# Altium footprint library Pin Header WR-PHD_1.27mm.PcbLib: 31 footprints (part 2 of 2)
Each footprint in its own frame and in the unit in brackets; x right, y up, seen from the top. Pads: shape width x height; smd on the part's side, far side on the other; paste and mask are expansions set on the pad; w line width, h text height; cw(c..) or ccw(c..) is an arc to the next point about the centre after c.
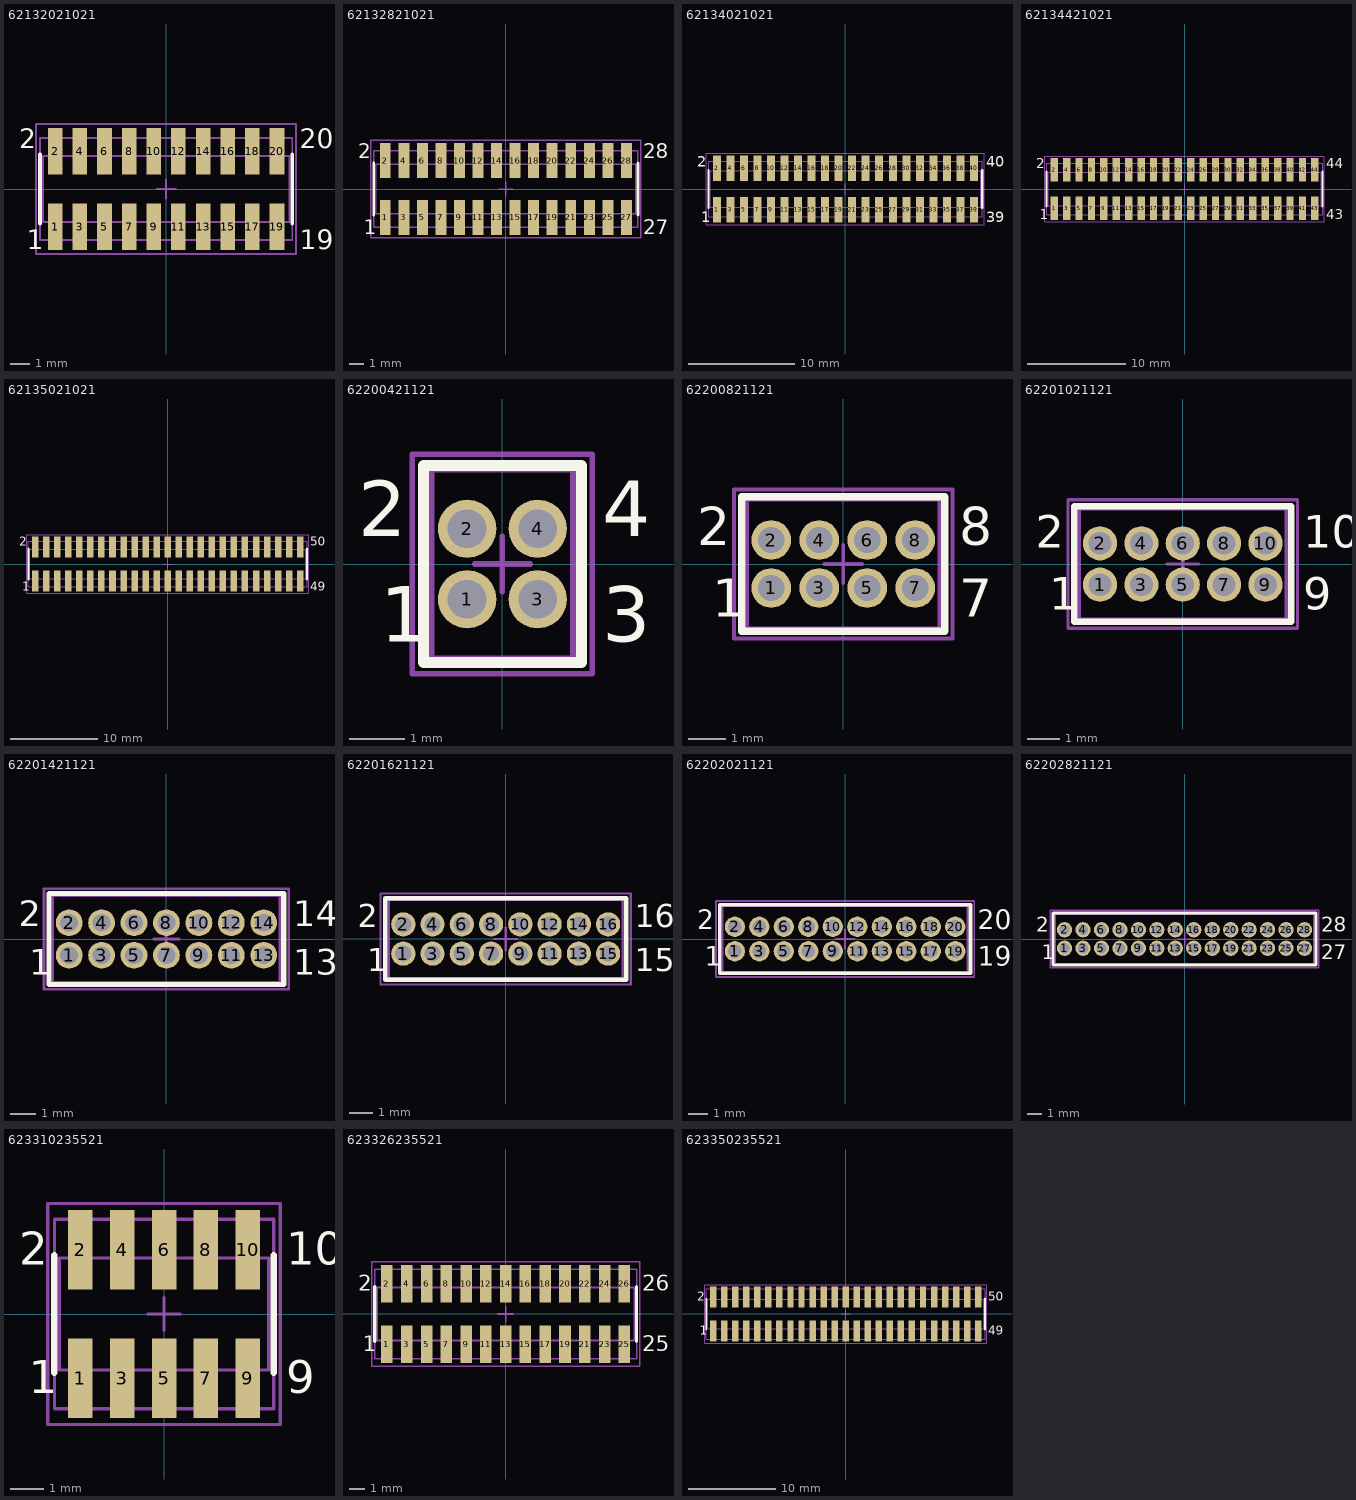
[diagram p1: the footprints below, top view; thin cyan lines are the x and y axes]

## 62132021021 [mm] "Pin Header, pitch 1.27 mm, SMD, Vertical, dual row, 20p"
height 6.1
pads (20):
  rect 0.75x2.4 smd: 1(-5.715,-1.95) 2(-5.715,1.95) 3(-4.445,-1.95) 4(-4.445,1.95) 5(-3.175,-1.95) 6(-3.175,1.95) 7(-1.905,-1.95) 8(-1.905,1.95) 9(-0.635,-1.95) 10(-0.635,1.95) 11(0.635,-1.95) 12(0.635,1.95) 13(1.905,-1.95) 14(1.905,1.95) 15(3.175,-1.95) 16(3.175,1.95) 17(4.445,-1.95) 18(4.445,1.95) 19(5.715,-1.95) 20(5.715,1.95)
Top Overlay:
  lines w0.2: -6.5,-1.775 -6.5,1.775 ; 6.5,-1.775 6.5,1.775
  text "2" at -7.58,2.1 h1
  text "1" at -7.18,-3.1 h1
  text "19" at 6.88,-3.1 h1
  text "20" at 6.88,2.1 h1
Mechanical 11:
  lines w0.1: -6.35,-1.7 6.35,-1.7 6.35,1.7 -6.35,1.7 -6.35,-1.7
Mechanical 13:
  lines w0.1: -6.5,-2.625 -6.5,2.625 6.5,2.625 6.5,-2.625 -6.5,-2.625
Mechanical 15:
  lines w0.1: -0.5,0 0.5,0 ; 0,-0.5 0,0.5 ; -6.7,-3.35 -6.7,3.35 6.7,3.35 6.7,-3.35 -6.7,-3.35
3D body "62132021021.stp": height 5.9, standoff 0, extent -6.35,-2.55 6.35,2.55

## 62132821021 [mm] "Pin Header, pitch 1.27 mm, SMD, Vertical, dual row, 28p"
height 6.1
pads (28):
  rect 0.75x2.4 smd: 1(-8.255,-1.95) 2(-8.255,1.95) 3(-6.985,-1.95) 4(-6.985,1.95) 5(-5.715,-1.95) 6(-5.715,1.95) 7(-4.445,-1.95) 8(-4.445,1.95) 9(-3.175,-1.95) 10(-3.175,1.95) 11(-1.905,-1.95) 12(-1.905,1.95) 13(-0.635,-1.95) 14(-0.635,1.95) 15(0.635,-1.95) 16(0.635,1.95) 17(1.905,-1.95) 18(1.905,1.95) 19(3.175,-1.95) 20(3.175,1.95) 21(4.445,-1.95) 22(4.445,1.95) 23(5.715,-1.95) 24(5.715,1.95) 25(6.985,-1.95) 26(6.985,1.95) 27(8.255,-1.95) 28(8.255,1.95)
Top Overlay:
  lines w0.2: -9.04,-1.775 -9.04,1.775 ; 9.04,-1.775 9.04,1.775
  text "28" at 9.42,2.1 h1
  text "27" at 9.42,-3.1 h1
  text "1" at -9.72,-3.1 h1
  text "2" at -10.12,2.1 h1
Mechanical 11:
  lines w0.1: -8.89,-1.7 -8.89,1.7 8.89,1.7 8.89,-1.7 -8.89,-1.7
Mechanical 13:
  lines w0.1: -9.04,-2.625 9.04,-2.625 9.04,2.625 -9.04,2.625 -9.04,-2.625
Mechanical 15:
  lines w0.1: -0.5,0 0.5,0 ; 0,-0.5 0,0.5 ; -9.24,-3.35 9.24,-3.35 9.24,3.35 -9.24,3.35 -9.24,-3.35
3D body "62132821021.stp": height 5.9, standoff 0, extent -8.89,-2.55 8.89,2.55

## 62134021021 [mm] "Pin Header, pitch 1.27 mm, SMD, Vertical, dual row, 40p"
height 6.1
pads (40):
  rect 0.75x2.4 smd: 1(-12.065,-1.95) 2(-12.065,1.95) 3(-10.795,-1.95) 4(-10.795,1.95) 5(-9.525,-1.95) 6(-9.525,1.95) 7(-8.255,-1.95) 8(-8.255,1.95) 9(-6.985,-1.95) 10(-6.985,1.95) 11(-5.715,-1.95) 12(-5.715,1.95) 13(-4.445,-1.95) 14(-4.445,1.95) 15(-3.175,-1.95) 16(-3.175,1.95) 17(-1.905,-1.95) 18(-1.905,1.95) 19(-0.635,-1.95) 20(-0.635,1.95) 21(0.635,-1.95) 22(0.635,1.95) 23(1.905,-1.95) 24(1.905,1.95) 25(3.175,-1.95) 26(3.175,1.95) 27(4.445,-1.95) 28(4.445,1.95) 29(5.715,-1.95) 30(5.715,1.95) 31(6.985,-1.95) 32(6.985,1.95) 33(8.255,-1.95) 34(8.255,1.95) 35(9.525,-1.95) 36(9.525,1.95) 37(10.795,-1.95) 38(10.795,1.95) 39(12.065,-1.95) 40(12.065,1.95)
Top Overlay:
  lines w0.2: -12.85,-1.775 -12.85,1.775 ; 12.85,-1.775 12.85,1.775
  text "40" at 13.23,2.1 h1
  text "39" at 13.23,-3.1 h1
  text "1" at -13.53,-3.1 h1
  text "2" at -13.93,2.1 h1
Mechanical 11:
  lines w0.1: -12.7,-1.7 -12.7,1.7 12.7,1.7 12.7,-1.7 -12.7,-1.7
Mechanical 13:
  lines w0.1: -12.85,-2.625 12.85,-2.625 12.85,2.625 -12.85,2.625 -12.85,-2.625
Mechanical 15:
  lines w0.1: -0.5,0 0.5,0 ; 0,-0.5 0,0.5 ; -13.05,-3.35 13.05,-3.35 13.05,3.35 -13.05,3.35 -13.05,-3.35
3D body "62134021021.stp": height 5.9, standoff 0, extent -12.7,-2.55 12.7,2.55

## 62134421021 [mm] "Pin Header, pitch 1.27 mm, SMD, Vertical, dual row, 44p"
height 6.1
pads (44):
  rect 0.75x2.4 smd: 1(-13.335,-1.95) 2(-13.335,1.95) 3(-12.065,-1.95) 4(-12.065,1.95) 5(-10.795,-1.95) 6(-10.795,1.95) 7(-9.525,-1.95) 8(-9.525,1.95) 9(-8.255,-1.95) 10(-8.255,1.95) 11(-6.985,-1.95) 12(-6.985,1.95) 13(-5.715,-1.95) 14(-5.715,1.95) 15(-4.445,-1.95) 16(-4.445,1.95) 17(-3.175,-1.95) 18(-3.175,1.95) 19(-1.905,-1.95) 20(-1.905,1.95) 21(-0.635,-1.95) 22(-0.635,1.95) 23(0.635,-1.95) 24(0.635,1.95) 25(1.905,-1.95) 26(1.905,1.95) 27(3.175,-1.95) 28(3.175,1.95) 29(4.445,-1.95) 30(4.445,1.95) 31(5.715,-1.95) 32(5.715,1.95) 33(6.985,-1.95) 34(6.985,1.95) 35(8.255,-1.95) 36(8.255,1.95) 37(9.525,-1.95) 38(9.525,1.95) 39(10.795,-1.95) 40(10.795,1.95) 41(12.065,-1.95) 42(12.065,1.95) 43(13.335,-1.95) 44(13.335,1.95)
Top Overlay:
  lines w0.2: -14.12,-1.775 -14.12,1.775 ; 14.12,-1.775 14.12,1.775
  text "44" at 14.5,2.1 h1
  text "43" at 14.5,-3.1 h1
  text "1" at -14.8,-3.1 h1
  text "2" at -15.2,2.1 h1
Mechanical 11:
  lines w0.1: -13.97,-1.7 -13.97,1.7 13.97,1.7 13.97,-1.7 -13.97,-1.7
Mechanical 13:
  lines w0.1: -14.12,-2.625 14.12,-2.625 14.12,2.625 -14.12,2.625 -14.12,-2.625
Mechanical 15:
  lines w0.1: -0.5,0 0.5,0 ; 0,-0.5 0,0.5 ; -14.32,-3.35 14.32,-3.35 14.32,3.35 -14.32,3.35 -14.32,-3.35
3D body "62134421021.stp": height 5.9, standoff 0, extent -13.97,-2.55 13.97,2.55

## 62135021021 [mm] "Pin Header, pitch 1.27 mm, SMD, Vertical, dual row, 50p"
height 6.1
pads (50):
  rect 0.75x2.4 smd: 1(-15.24,-1.95) 2(-15.24,1.95) 3(-13.97,-1.95) 4(-13.97,1.95) 5(-12.7,-1.95) 6(-12.7,1.95) 7(-11.43,-1.95) 8(-11.43,1.95) 9(-10.16,-1.95) 10(-10.16,1.95) 11(-8.89,-1.95) 12(-8.89,1.95) 13(-7.62,-1.95) 14(-7.62,1.95) 15(-6.35,-1.95) 16(-6.35,1.95) 17(-5.08,-1.95) 18(-5.08,1.95) 19(-3.81,-1.95) 20(-3.81,1.95) 21(-2.54,-1.95) 22(-2.54,1.95) 23(-1.27,-1.95) 24(-1.27,1.95) 25(0,-1.95) 26(0,1.95) 27(1.27,-1.95) 28(1.27,1.95) 29(2.54,-1.95) 30(2.54,1.95) 31(3.81,-1.95) 32(3.81,1.95) 33(5.08,-1.95) 34(5.08,1.95) 35(6.35,-1.95) 36(6.35,1.95) 37(7.62,-1.95) 38(7.62,1.95) 39(8.89,-1.95) 40(8.89,1.95) 41(10.16,-1.95) 42(10.16,1.95) 43(11.43,-1.95) 44(11.43,1.95) 45(12.7,-1.95) 46(12.7,1.95) 47(13.97,-1.95) 48(13.97,1.95) 49(15.24,-1.95) 50(15.24,1.95)
Top Overlay:
  lines w0.2: -16.025,-1.775 -16.025,1.775 ; 16.025,-1.775 16.025,1.775
  text "2" at -17.105,2.1 h1
  text "1" at -16.705,-3.1 h1
  text "49" at 16.405,-3.1 h1
  text "50" at 16.405,2.1 h1
Mechanical 11:
  lines w0.1: -15.875,-1.7 15.875,-1.7 15.875,1.7 -15.875,1.7 -15.875,-1.7
Mechanical 13:
  lines w0.1: -16.025,-2.625 -16.025,2.625 16.025,2.625 16.025,-2.625 -16.025,-2.625
Mechanical 15:
  lines w0.1: -0.5,0 0.5,0 ; 0,-0.5 0,0.5 ; -16.225,-3.35 -16.225,3.35 16.225,3.35 16.225,-3.35 -16.225,-3.35
3D body "62135021021.stp": height 5.9, standoff 0, extent -15.875,-2.55 15.875,2.55

## 62200421121 [mm] "Pin Header, pitch 1.27 mm, THT, Vertical, dual row, 4p"
height 5.65
pads (4):
  round 1.05 hole 0.7: 1(-0.635,-0.635) 2(-0.635,0.635) 3(0.635,-0.635) 4(0.635,0.635)
Top Overlay:
  lines w0.2: -1.42,-1.775 1.42,-1.775 1.42,1.775 -1.42,1.775 -1.42,-1.775
  text "3" at 1.8,-1.4 h1
  text "4" at 1.8,0.5 h1
  text "2" at -2.6,0.5 h1
  text "1" at -2.2,-1.4 h1
Mechanical 11:
  lines w0.1: -1.27,-1.7 1.27,-1.7 1.27,1.7 -1.27,1.7 -1.27,-1.7
Mechanical 13:
  lines w0.1: -1.42,-1.775 1.42,-1.775 1.42,1.775 -1.42,1.775 -1.42,-1.775
Mechanical 15:
  lines w0.1: -0.5,0 0.5,0 ; 0,-0.5 0,0.5 ; -1.62,-1.975 1.62,-1.975 1.62,1.975 -1.62,1.975 -1.62,-1.975
3D body "62200421121.stp": height 5.33, standoff -2.27, extent -1.27,-1.7 1.27,1.7

## 62200821121 [mm] "Pin Header, pitch 1.27 mm, THT, Vertical, dual row, 8p"
height 5.65
pads (8):
  round 1.05 hole 0.7: 1(-1.905,-0.635) 2(-1.905,0.635) 3(-0.635,-0.635) 4(-0.635,0.635) 5(0.635,-0.635) 6(0.635,0.635) 7(1.905,-0.635) 8(1.905,0.635)
Top Overlay:
  lines w0.2: -2.69,-1.775 -2.69,1.775 2.69,1.775 2.69,-1.775 -2.69,-1.775
  text "1" at -3.47,-1.4 h1
  text "2" at -3.87,0.5 h1
  text "7" at 3.07,-1.4 h1
  text "8" at 3.07,0.5 h1
Mechanical 11:
  lines w0.1: -2.54,-1.7 -2.54,1.7 2.54,1.7 2.54,-1.7 -2.54,-1.7
Mechanical 13:
  lines w0.1: -2.69,-1.775 -2.69,1.775 2.69,1.775 2.69,-1.775 -2.69,-1.775
Mechanical 15:
  lines w0.1: -0.5,0 0.5,0 ; 0,-0.5 0,0.5 ; -2.89,-1.975 2.89,-1.975 2.89,1.975 -2.89,1.975 -2.89,-1.975
3D body "62200821121.stp": height 5.33, standoff -2.27, extent -2.54,-1.7 2.54,1.7

## 62201021121 [mm] "Pin Header, pitch 1.27 mm, THT, Vertical, dual row, 10p"
height 5.65
pads (10):
  round 1.05 hole 0.7: 1(-2.54,-0.635) 2(-2.54,0.635) 3(-1.27,-0.635) 4(-1.27,0.635) 5(0,-0.635) 6(0,0.635) 7(1.27,-0.635) 8(1.27,0.635) 9(2.54,-0.635) 10(2.54,0.635)
Top Overlay:
  lines w0.2: -3.325,-1.775 -3.325,1.775 3.325,1.775 3.325,-1.775 -3.325,-1.775
  text "10" at 3.705,0.5 h1
  text "9" at 3.705,-1.4 h1
  text "1" at -4.105,-1.4 h1
  text "2" at -4.505,0.5 h1
Mechanical 11:
  lines w0.1: -3.175,-1.7 -3.175,1.7 3.175,1.7 3.175,-1.7 -3.175,-1.7
Mechanical 13:
  lines w0.1: -3.325,-1.775 -3.325,1.775 3.325,1.775 3.325,-1.775 -3.325,-1.775
Mechanical 15:
  lines w0.1: -0.5,0 0.5,0 ; 0,-0.5 0,0.5 ; -3.525,-1.975 3.525,-1.975 3.525,1.975 -3.525,1.975 -3.525,-1.975
3D body "62201021121.stp": height 5.33, standoff -2.27, extent -3.175,-1.7 3.175,1.7

## 62201421121 [mm] "Pin Header, pitch 1.27 mm, THT, Vertical, dual row, 14p"
height 5.65
pads (14):
  round 1.05 hole 0.7: 1(-3.81,-0.635) 2(-3.81,0.635) 3(-2.54,-0.635) 4(-2.54,0.635) 5(-1.27,-0.635) 6(-1.27,0.635) 7(0,-0.635) 8(0,0.635) 9(1.27,-0.635) 10(1.27,0.635) 11(2.54,-0.635) 12(2.54,0.635) 13(3.81,-0.635) 14(3.81,0.635)
Top Overlay:
  lines w0.2: -4.595,-1.775 -4.595,1.775 4.595,1.775 4.595,-1.775 -4.595,-1.775
  text "14" at 4.975,0.5 h1
  text "13" at 4.975,-1.4 h1
  text "1" at -5.375,-1.4 h1
  text "2" at -5.775,0.5 h1
Mechanical 11:
  lines w0.1: -4.445,-1.7 -4.445,1.7 4.445,1.7 4.445,-1.7 -4.445,-1.7
Mechanical 13:
  lines w0.1: -4.595,-1.775 -4.595,1.775 4.595,1.775 4.595,-1.775 -4.595,-1.775
Mechanical 15:
  lines w0.1: -0.5,0 0.5,0 ; 0,-0.5 0,0.5 ; -4.795,-1.975 4.795,-1.975 4.795,1.975 -4.795,1.975 -4.795,-1.975
3D body "62201421121.stp": height 5.33, standoff -2.27, extent -4.445,-1.7 4.445,1.7

## 62201621121 [mm] "Pin Header, pitch 1.27 mm, THT, Vertical, dual row, 16p"
height 5.65
pads (16):
  round 1.05 hole 0.7: 1(-4.445,-0.635) 2(-4.445,0.635) 3(-3.175,-0.635) 4(-3.175,0.635) 5(-1.905,-0.635) 6(-1.905,0.635) 7(-0.635,-0.635) 8(-0.635,0.635) 9(0.635,-0.635) 10(0.635,0.635) 11(1.905,-0.635) 12(1.905,0.635) 13(3.175,-0.635) 14(3.175,0.635) 15(4.445,-0.635) 16(4.445,0.635)
Top Overlay:
  lines w0.2: -5.23,-1.775 -5.23,1.775 5.23,1.775 5.23,-1.775 -5.23,-1.775
  text "16" at 5.61,0.5 h1
  text "15" at 5.61,-1.4 h1
  text "1" at -6.01,-1.4 h1
  text "2" at -6.41,0.5 h1
Mechanical 11:
  lines w0.1: -5.08,-1.7 -5.08,1.7 5.08,1.7 5.08,-1.7 -5.08,-1.7
Mechanical 13:
  lines w0.1: -5.23,-1.775 -5.23,1.775 5.23,1.775 5.23,-1.775 -5.23,-1.775
Mechanical 15:
  lines w0.1: -0.5,0 0.5,0 ; 0,-0.5 0,0.5 ; -5.43,-1.975 5.43,-1.975 5.43,1.975 -5.43,1.975 -5.43,-1.975
3D body "62201621121.stp": height 5.33, standoff -2.27, extent -5.08,-1.7 5.08,1.7

## 62202021121 [mm] "Pin Header, pitch 1.27 mm, THT, Vertical, dual row, 20p"
height 5.65
pads (20):
  round 1.05 hole 0.7: 1(-5.715,-0.635) 2(-5.715,0.635) 3(-4.445,-0.635) 4(-4.445,0.635) 5(-3.175,-0.635) 6(-3.175,0.635) 7(-1.905,-0.635) 8(-1.905,0.635) 9(-0.635,-0.635) 10(-0.635,0.635) 11(0.635,-0.635) 12(0.635,0.635) 13(1.905,-0.635) 14(1.905,0.635) 15(3.175,-0.635) 16(3.175,0.635) 17(4.445,-0.635) 18(4.445,0.635) 19(5.715,-0.635) 20(5.715,0.635)
Top Overlay:
  lines w0.2: -6.5,-1.775 -6.5,1.775 6.5,1.775 6.5,-1.775 -6.5,-1.775
  text "1" at -7.28,-1.4 h1
  text "2" at -7.68,0.5 h1
  text "19" at 6.88,-1.4 h1
  text "20" at 6.88,0.5 h1
Mechanical 11:
  lines w0.1: -6.35,-1.7 -6.35,1.7 6.35,1.7 6.35,-1.7 -6.35,-1.7
Mechanical 13:
  lines w0.1: -6.5,-1.775 -6.5,1.775 6.5,1.775 6.5,-1.775 -6.5,-1.775
Mechanical 15:
  lines w0.1: -0.5,0 0.5,0 ; 0,-0.5 0,0.5 ; -6.7,-1.975 6.7,-1.975 6.7,1.975 -6.7,1.975 -6.7,-1.975
3D body "62202021121.stp": height 5.33, standoff -2.27, extent -6.35,-1.7 6.35,1.7

## 62202821121 [mm] "Pin Header, pitch 1.27 mm, THT, Vertical, dual row, 28p"
height 5.65
pads (28):
  round 1.05 hole 0.7: 1(-8.255,-0.635) 2(-8.255,0.635) 3(-6.985,-0.635) 4(-6.985,0.635) 5(-5.715,-0.635) 6(-5.715,0.635) 7(-4.445,-0.635) 8(-4.445,0.635) 9(-3.175,-0.635) 10(-3.175,0.635) 11(-1.905,-0.635) 12(-1.905,0.635) 13(-0.635,-0.635) 14(-0.635,0.635) 15(0.635,-0.635) 16(0.635,0.635) 17(1.905,-0.635) 18(1.905,0.635) 19(3.175,-0.635) 20(3.175,0.635) 21(4.445,-0.635) 22(4.445,0.635) 23(5.715,-0.635) 24(5.715,0.635) 25(6.985,-0.635) 26(6.985,0.635) 27(8.255,-0.635) 28(8.255,0.635)
Top Overlay:
  lines w0.2: -9.04,-1.775 -9.04,1.775 9.04,1.775 9.04,-1.775 -9.04,-1.775
  text "28" at 9.42,0.5 h1
  text "27" at 9.42,-1.4 h1
  text "1" at -9.82,-1.4 h1
  text "2" at -10.22,0.5 h1
Mechanical 11:
  lines w0.1: -8.89,-1.7 -8.89,1.7 8.89,1.7 8.89,-1.7 -8.89,-1.7
Mechanical 13:
  lines w0.1: -9.04,-1.775 -9.04,1.775 9.04,1.775 9.04,-1.775 -9.04,-1.775
Mechanical 15:
  lines w0.1: -0.5,0 0.5,0 ; 0,-0.5 0,0.5 ; -9.24,-1.975 9.24,-1.975 9.24,1.975 -9.24,1.975 -9.24,-1.975
3D body "62202821121.stp": height 5.33, standoff -2.27, extent -8.89,-1.7 8.89,1.7

## 623310235521 [mm] "Pin Header, pitch 1.27 mm, SMD, Vertical, dual row, 10p"
height 4.45
pads (10):
  rect 0.74x2.4 smd: 1(-2.54,-1.95) 2(-2.54,1.95) 3(-1.27,-1.95) 4(-1.27,1.95) 5(0,-1.95) 6(0,1.95) 7(1.27,-1.95) 8(1.27,1.95) 9(2.54,-1.95) 10(2.54,1.95)
Top Overlay:
  lines w0.2: -3.325,-1.775 -3.325,1.775 ; 3.325,-1.775 3.325,1.775
  text "1" at -4.1,-2.4 h1
  text "2" at -4.4,1.5 h1
  text "9" at 3.7,-2.4 h1
  text "10" at 3.7,1.5 h1
Mechanical 11:
  lines w0.1: -3.175,-1.7 -3.175,1.7 3.175,1.7 3.175,-1.7 -3.175,-1.7
Mechanical 13:
  lines w0.1: -3.325,-2.875 -3.325,2.875 3.325,2.875 3.325,-2.875 -3.325,-2.875
Mechanical 15:
  lines w0.1: -0.5,0 0.5,0 ; 0,-0.5 0,0.5 ; -3.525,-3.35 -3.525,3.35 3.525,3.35 3.525,-3.35 -3.525,-3.35
3D body "623310235521.stp": height 6, standoff 0, extent -3.175,-2.75 3.175,2.75

## 623326235521 [mm] "Pin Header, pitch 1.27 mm, SMD, Vertical, dual row, 26p"
height 4.45
pads (26):
  rect 0.74x2.4 smd: 1(-7.62,-1.95) 2(-7.62,1.95) 3(-6.35,-1.95) 4(-6.35,1.95) 5(-5.08,-1.95) 6(-5.08,1.95) 7(-3.81,-1.95) 8(-3.81,1.95) 9(-2.54,-1.95) 10(-2.54,1.95) 11(-1.27,-1.95) 12(-1.27,1.95) 13(0,-1.95) 14(0,1.95) 15(1.27,-1.95) 16(1.27,1.95) 17(2.54,-1.95) 18(2.54,1.95) 19(3.81,-1.95) 20(3.81,1.95) 21(5.08,-1.95) 22(5.08,1.95) 23(6.35,-1.95) 24(6.35,1.95) 25(7.62,-1.95) 26(7.62,1.95)
Top Overlay:
  lines w0.2: -8.405,-1.775 -8.405,1.775 ; 8.405,-1.775 8.405,1.775
  text "1" at -9.18,-2.4 h1
  text "2" at -9.48,1.5 h1
  text "26" at 8.78,1.5 h1
  text "25" at 8.78,-2.4 h1
Mechanical 11:
  lines w0.1: -8.255,-1.7 -8.255,1.7 8.255,1.7 8.255,-1.7 -8.255,-1.7
Mechanical 13:
  lines w0.1: -8.405,-2.875 -8.405,2.875 8.405,2.875 8.405,-2.875 -8.405,-2.875
Mechanical 15:
  lines w0.1: -0.5,0 0.5,0 ; 0,-0.5 0,0.5 ; -8.605,-3.35 -8.605,3.35 8.605,3.35 8.605,-3.35 -8.605,-3.35
3D body "623326235521.stp": height 6, standoff 0, extent -8.255,-2.75 8.255,2.75

## 623350235521 [mm] "Pin Header, pitch 1.27 mm, SMD, Vertical, dual row, 50p"
height 4.45
pads (50):
  rect 0.74x2.4 smd: 1(-15.24,-1.95) 2(-15.24,1.95) 3(-13.97,-1.95) 4(-13.97,1.95) 5(-12.7,-1.95) 6(-12.7,1.95) 7(-11.43,-1.95) 8(-11.43,1.95) 9(-10.16,-1.95) 10(-10.16,1.95) 11(-8.89,-1.95) 12(-8.89,1.95) 13(-7.62,-1.95) 14(-7.62,1.95) 15(-6.35,-1.95) 16(-6.35,1.95) 17(-5.08,-1.95) 18(-5.08,1.95) 19(-3.81,-1.95) 20(-3.81,1.95) 21(-2.54,-1.95) 22(-2.54,1.95) 23(-1.27,-1.95) 24(-1.27,1.95) 25(0,-1.95) 26(0,1.95) 27(1.27,-1.95) 28(1.27,1.95) 29(2.54,-1.95) 30(2.54,1.95) 31(3.81,-1.95) 32(3.81,1.95) 33(5.08,-1.95) 34(5.08,1.95) 35(6.35,-1.95) 36(6.35,1.95) 37(7.62,-1.95) 38(7.62,1.95) 39(8.89,-1.95) 40(8.89,1.95) 41(10.16,-1.95) 42(10.16,1.95) 43(11.43,-1.95) 44(11.43,1.95) 45(12.7,-1.95) 46(12.7,1.95) 47(13.97,-1.95) 48(13.97,1.95) 49(15.24,-1.95) 50(15.24,1.95)
Top Overlay:
  lines w0.2: -16.025,-1.775 -16.025,1.775 ; 16.025,-1.775 16.025,1.775
  text "1" at -16.8,-2.4 h1
  text "2" at -17.1,1.5 h1
  text "49" at 16.4,-2.4 h1
  text "50" at 16.4,1.5 h1
Mechanical 11:
  lines w0.1: -15.875,-1.7 -15.875,1.7 15.875,1.7 15.875,-1.7 -15.875,-1.7
Mechanical 13:
  lines w0.1: -16.025,-2.875 -16.025,2.875 16.025,2.875 16.025,-2.875 -16.025,-2.875
Mechanical 15:
  lines w0.1: -0.5,0 0.5,0 ; 0,-0.5 0,0.5 ; -16.225,-3.35 -16.225,3.35 16.225,3.35 16.225,-3.35 -16.225,-3.35
3D body "623350235521.stp": height 6, standoff 0, extent -15.875,-2.75 15.875,2.75